# EAGLE library part BA04-11SYKWA (library 877-0833)
7 Segment LED Display, Mechanically Rugged, Yellow, 20 mA, 2 V, 30 mcd, 3, 10.2 mm Source: Datasheet
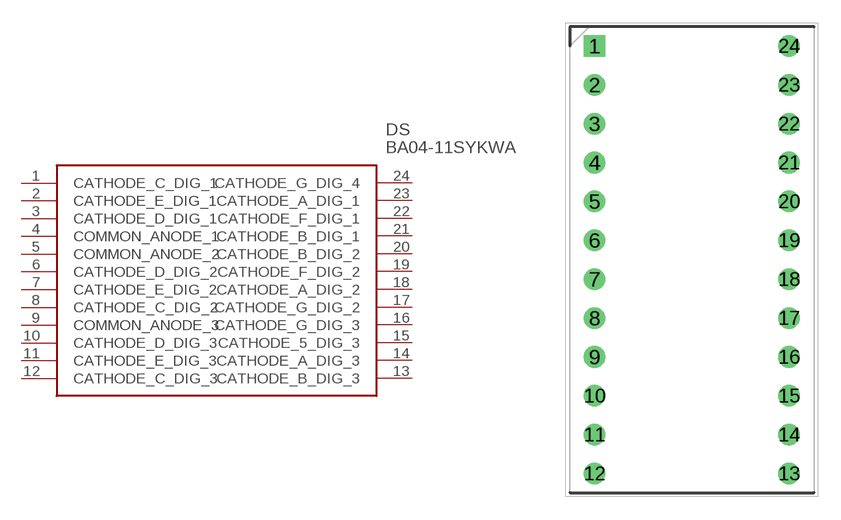
[diagram p0: symbol with the pads of DIPS1270W70P254L3020H725Q24N; footprint DIPS1270W70P254L3020H725Q24N]

Designator prefix DS

## BA04-11SYKWA (Description: 7 Segment LED Display, Mechanically Rugged, Yellow, 20 mA, 2 V, 30 mcd, 3, 10.2 mm; Height: 7.25mm; Manufacturer_Name: Kingbright; Manufacturer_Part_Number: BA04-11SYKWA; Mouser_Part_Number: N/A; Mouser_Price-Stock: https://www.mouser.com/Search/Refine.aspx?Keyword=N%2FA)  [DIPS1270W70P254L3020H725Q24N]
1  CATHODE_C_DIG_1
2  CATHODE_E_DIG_1
3  CATHODE_D_DIG_1
4  COMMON_ANODE_1
5  COMMON_ANODE_2
6  CATHODE_D_DIG_2
7  CATHODE_E_DIG_2
8  CATHODE_C_DIG_2
9  COMMON_ANODE_3
10  CATHODE_D_DIG_3
11  CATHODE_E_DIG_3
12  CATHODE_C_DIG_3
13  CATHODE_B_DIG_3
14  CATHODE_A_DIG_3
15  CATHODE_5_DIG_3
16  CATHODE_G_DIG_3
17  CATHODE_G_DIG_2
18  CATHODE_A_DIG_2
19  CATHODE_F_DIG_2
20  CATHODE_B_DIG_2
21  CATHODE_B_DIG_1
22  CATHODE_F_DIG_1
23  CATHODE_A_DIG_1
24  CATHODE_G_DIG_4

## Footprint DIPS1270W70P254L3020H725Q24N (pad centres in mm)
BA04-11SYKWA
drill 0.9 pad 1.35 square: 1 0,0
drill 0.9 pad 1.35: 2 0,-2.54; 3 0,-5.08; 4 0,-7.62; 5 0,-10.16; 6 0,-12.7; 7 0,-15.24; 8 0,-17.78; 9 0,-20.32; 10 0,-22.86; 11 0,-25.4; 12 0,-27.94; 13 12.7,-27.94; 14 12.7,-25.4; 15 12.7,-22.86; 16 12.7,-20.32; 17 12.7,-17.78; 18 12.7,-15.24; 19 12.7,-12.7; 20 12.7,-10.16; 21 12.7,-7.62; 22 12.7,-5.08; 23 12.7,-2.54; 24 12.7,0